# Altium footprint library USB4120-03-C.PcbLib: 1 footprints
Each footprint in its own frame and in the unit in brackets; x right, y up, seen from the top. Pads: shape width x height; smd on the part's side, far side on the other; paste and mask are expansions set on the pad; w line width, h text height; cw(c..) or ccw(c..) is an arc to the next point about the centre after c.
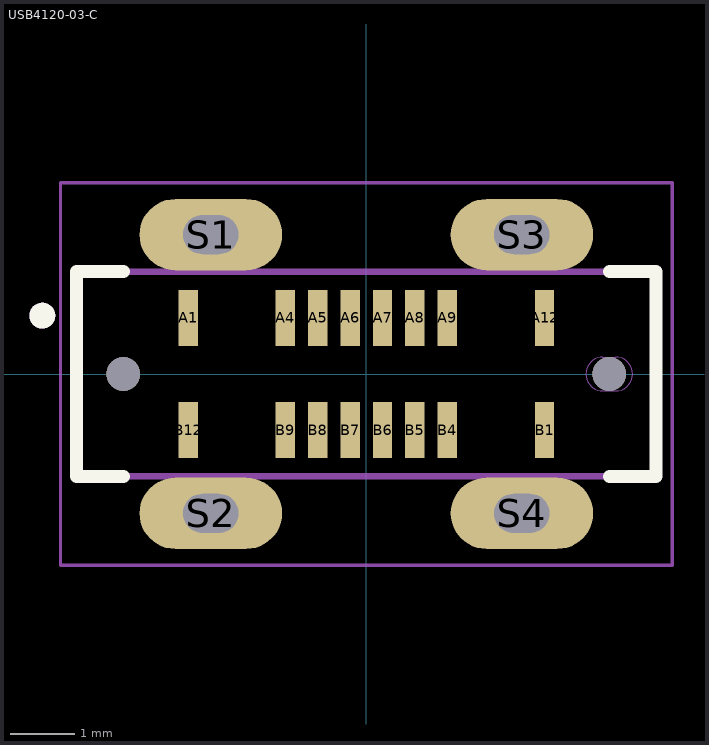
[diagram p0: the footprint, top view; thin cyan lines are the x and y axes]

## USB4120-03-C [mm]
pads (22):
  rect 0.3x0.87 smd: A1(-2.75,0.865) A12(2.75,0.865) B1(2.75,-0.865) B12(-2.75,-0.865)
  rect 0.3x0.87 smd mask+0.05: A4(-1.25,0.865) A5(-0.75,0.865) A6(-0.25,0.865) A7(0.25,0.865) A8(0.75,0.865) A9(1.25,0.865) B4(1.25,-0.865) B5(0.75,-0.865) B6(0.25,-0.865) B7(-0.25,-0.865) B8(-0.75,-0.865) B9(-1.25,-0.865)
  oval 2.2x1.1 hole 0.6 slot 0.85 at 0 deg: S1(-2.4,2.15) S2(-2.4,-2.15) S3(2.4,2.15) S4(2.4,-2.15)
  round 0.52 hole 0.52 unplated: ""(-3.75,0) ""(3.75,0)
Top Overlay:
  circle w0.2: c-5,0.9 r0.1
  lines w0.2: -3.75,-1.58 -4.47,-1.58 -4.47,1.58 -3.75,1.58 ; 3.75,-1.58 4.47,-1.58 4.47,1.58 3.75,1.58
Design Notes:
  lines w0: 3.39,0 cw(c3.65,0) 3.65,0.26 3.85,0.26 cw(c3.85,0) 4.11,0 cw(c3.85,0) 3.85,-0.26 3.65,-0.26 cw(c3.65,0) 3.39,0
Top 3D Body:
  circle w0.2: c-5,0.9 r0.1
  lines w0.1: -4.47,-1.58 -4.47,1.58 4.47,1.58 4.47,-1.58 -4.47,-1.58
Top Courtyard:
  lines w0.05: -4.72,-2.95 -4.72,2.95 4.72,2.95 4.72,-2.95 -4.72,-2.95
3D body "USB4120-03-C--3DModel-STEP-56544.STEP": height 6.5, standoff -0.95, extent -4.47,-2.3 4.47,2.3